# Altium footprint library AltiumDesigner.PcbLib: 3 footprints
Each footprint in its own frame and in the unit in brackets; x right, y up, seen from the top. Pads: shape width x height; smd on the part's side, far side on the other; paste and mask are expansions set on the pad; w line width, h text height; cw(c..) or ccw(c..) is an arc to the next point about the centre after c.
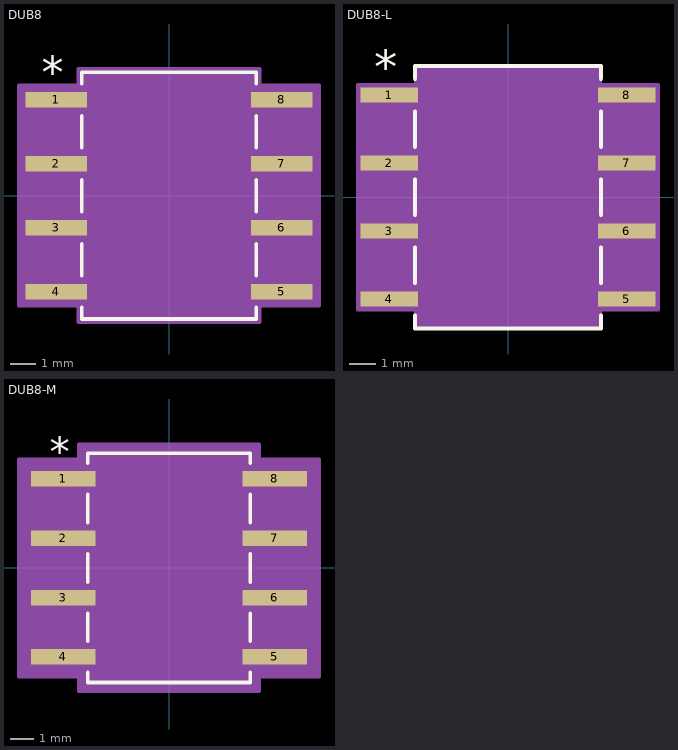
[diagram p0: the footprints below, top view; thin cyan lines are the x and y axes]

## DUB8 [mil]
pads (8):
  rect 96.5x24 smd paste+0 mask+0: 1(-176.25,150) 2(-176.25,50) 3(-176.25,-50) 4(-176.25,-150) 5(176.25,-150) 6(176.25,-50) 7(176.25,50) 8(176.25,150)
Top Overlay:
  lines w6: -136.5,-175.1 -136.5,-193 136.5,-193 136.5,-175.1 ; -136.5,-124.9 -136.5,-75.1 ; -136.5,-24.9 -136.5,24.9 ; -136.5,75.1 -136.5,124.9 ; -136.5,175.1 -136.5,193 136.5,193 136.5,175.1 ; 136.5,-124.9 136.5,-75.1 ; 136.5,-24.9 136.5,24.9 ; 136.5,75.1 136.5,124.9
  text "*" at -198.75,169 h50
Mechanical 13:
  lines w0: -12,188 ccw(c0,188) 12,188
  lines w1: -210.5,-161 -210.5,-139 -131.5,-139 -131.5,-161 -210.5,-161 ; -210.5,-61 -210.5,-39 -131.5,-39 -131.5,-61 -210.5,-61 ; -210.5,39 -210.5,61 -131.5,61 -131.5,39 -210.5,39 ; -210.5,139 -210.5,161 -131.5,161 -131.5,139 -210.5,139 ; -131.5,-188 131.5,-188 131.5,188 -131.5,188 -131.5,-188 ; 131.5,-161 131.5,-139 210.5,-139 210.5,-161 131.5,-161 ; 131.5,-61 131.5,-39 210.5,-39 210.5,-61 131.5,-61 ; 131.5,39 131.5,61 210.5,61 210.5,39 131.5,39 ; 131.5,139 131.5,161 210.5,161 210.5,139 131.5,139
  text "*" at -129,135 h50
Mechanical 15:
  region: -141.5,-172 -234.5,-172 -234.5,172 -141.5,172 -141.5,198 141.5,198 141.5,172 234.5,172 234.5,-172 141.5,-172 141.5,-198 -141.5,-198
  lines w6: -234.5,-172 -234.5,172 -141.5,172 -141.5,198 141.5,198 141.5,172 234.5,172 234.5,-172 141.5,-172 141.5,-198 -141.5,-198 -141.5,-172 -234.5,-172
3D body: height 10, standoff 0, extent 0,0 10,10

## DUB8-L [mil]
pads (8):
  rect 84.5x22 smd paste+0 mask+0: 1(-174.25,150) 2(-174.25,50) 3(-174.25,-50) 4(-174.25,-150) 5(174.25,-150) 6(174.25,-50) 7(174.25,50) 8(174.25,150)
Top Overlay:
  lines w6: -136.5,-174.1 -136.5,-193 136.5,-193 136.5,-174.1 ; -136.5,-125.9 -136.5,-74.1 ; -136.5,-25.9 -136.5,25.9 ; -136.5,74.1 -136.5,125.9 ; -136.5,174.1 -136.5,193 136.5,193 136.5,174.1 ; 136.5,-125.9 136.5,-74.1 ; 136.5,-25.9 136.5,25.9 ; 136.5,74.1 136.5,125.9
  text "*" at -196.75,167 h50
Mechanical 13:
  lines w0: -12,188 ccw(c0,188) 12,188
  lines w1: -210.5,-161 -210.5,-139 -131.5,-139 -131.5,-161 -210.5,-161 ; -210.5,-61 -210.5,-39 -131.5,-39 -131.5,-61 -210.5,-61 ; -210.5,39 -210.5,61 -131.5,61 -131.5,39 -210.5,39 ; -210.5,139 -210.5,161 -131.5,161 -131.5,139 -210.5,139 ; -131.5,-188 131.5,-188 131.5,188 -131.5,188 -131.5,-188 ; 131.5,-161 131.5,-139 210.5,-139 210.5,-161 131.5,-161 ; 131.5,-61 131.5,-39 210.5,-39 210.5,-61 131.5,-61 ; 131.5,39 131.5,61 210.5,61 210.5,39 131.5,39 ; 131.5,139 131.5,161 210.5,161 210.5,139 131.5,139
  text "*" at -129,135 h50
Mechanical 15:
  region: -135.5,-165 -220.5,-165 -220.5,165 -135.5,165 -135.5,192 135.5,192 135.5,165 220.5,165 220.5,-165 135.5,-165 135.5,-192 -135.5,-192
  lines w6: -220.5,-165 -220.5,165 -135.5,165 -135.5,192 135.5,192 135.5,165 220.5,165 220.5,-165 135.5,-165 135.5,-192 -135.5,-192 -135.5,-165 -220.5,-165
3D body: height 10, standoff 0, extent 0,0 10,10

## DUB8-M [mil]
pads (8):
  rect 108.5x26 smd paste+0 mask+0: 1(-178.25,150) 2(-178.25,50) 3(-178.25,-50) 4(-178.25,-150) 5(178.25,-150) 6(178.25,-50) 7(178.25,50) 8(178.25,150)
Top Overlay:
  lines w6: -136.5,-176.1 -136.5,-193 136.5,-193 136.5,-176.1 ; -136.5,-123.9 -136.5,-76.1 ; -136.5,-23.9 -136.5,23.9 ; -136.5,76.1 -136.5,123.9 ; -136.5,176.1 -136.5,193 136.5,193 136.5,176.1 ; 136.5,-123.9 136.5,-76.1 ; 136.5,-23.9 136.5,23.9 ; 136.5,76.1 136.5,123.9
  text "*" at -200.75,171 h50
Mechanical 13:
  lines w0: -12,188 ccw(c0,188) 12,188
  lines w1: -210.5,-161 -210.5,-139 -131.5,-139 -131.5,-161 -210.5,-161 ; -210.5,-61 -210.5,-39 -131.5,-39 -131.5,-61 -210.5,-61 ; -210.5,39 -210.5,61 -131.5,61 -131.5,39 -210.5,39 ; -210.5,139 -210.5,161 -131.5,161 -131.5,139 -210.5,139 ; -131.5,-188 131.5,-188 131.5,188 -131.5,188 -131.5,-188 ; 131.5,-161 131.5,-139 210.5,-139 210.5,-161 131.5,-161 ; 131.5,-61 131.5,-39 210.5,-39 210.5,-61 131.5,-61 ; 131.5,39 131.5,61 210.5,61 210.5,39 131.5,39 ; 131.5,139 131.5,161 210.5,161 210.5,139 131.5,139
  text "*" at -129,135 h50
Mechanical 15:
  region: -151.5,-183 -252.5,-183 -252.5,183 -151.5,183 -151.5,208 151.5,208 151.5,183 252.5,183 252.5,-183 151.5,-183 151.5,-208 -151.5,-208
  lines w6: -252.5,-183 -252.5,183 -151.5,183 -151.5,208 151.5,208 151.5,183 252.5,183 252.5,-183 151.5,-183 151.5,-208 -151.5,-208 -151.5,-183 -252.5,-183
3D body: height 10, standoff 0, extent 0,0 10,10